# Altium integrated library Linear Technology Power Management Hot Swap Controllers.IntLib: 992 symbols (part 16 of 93)
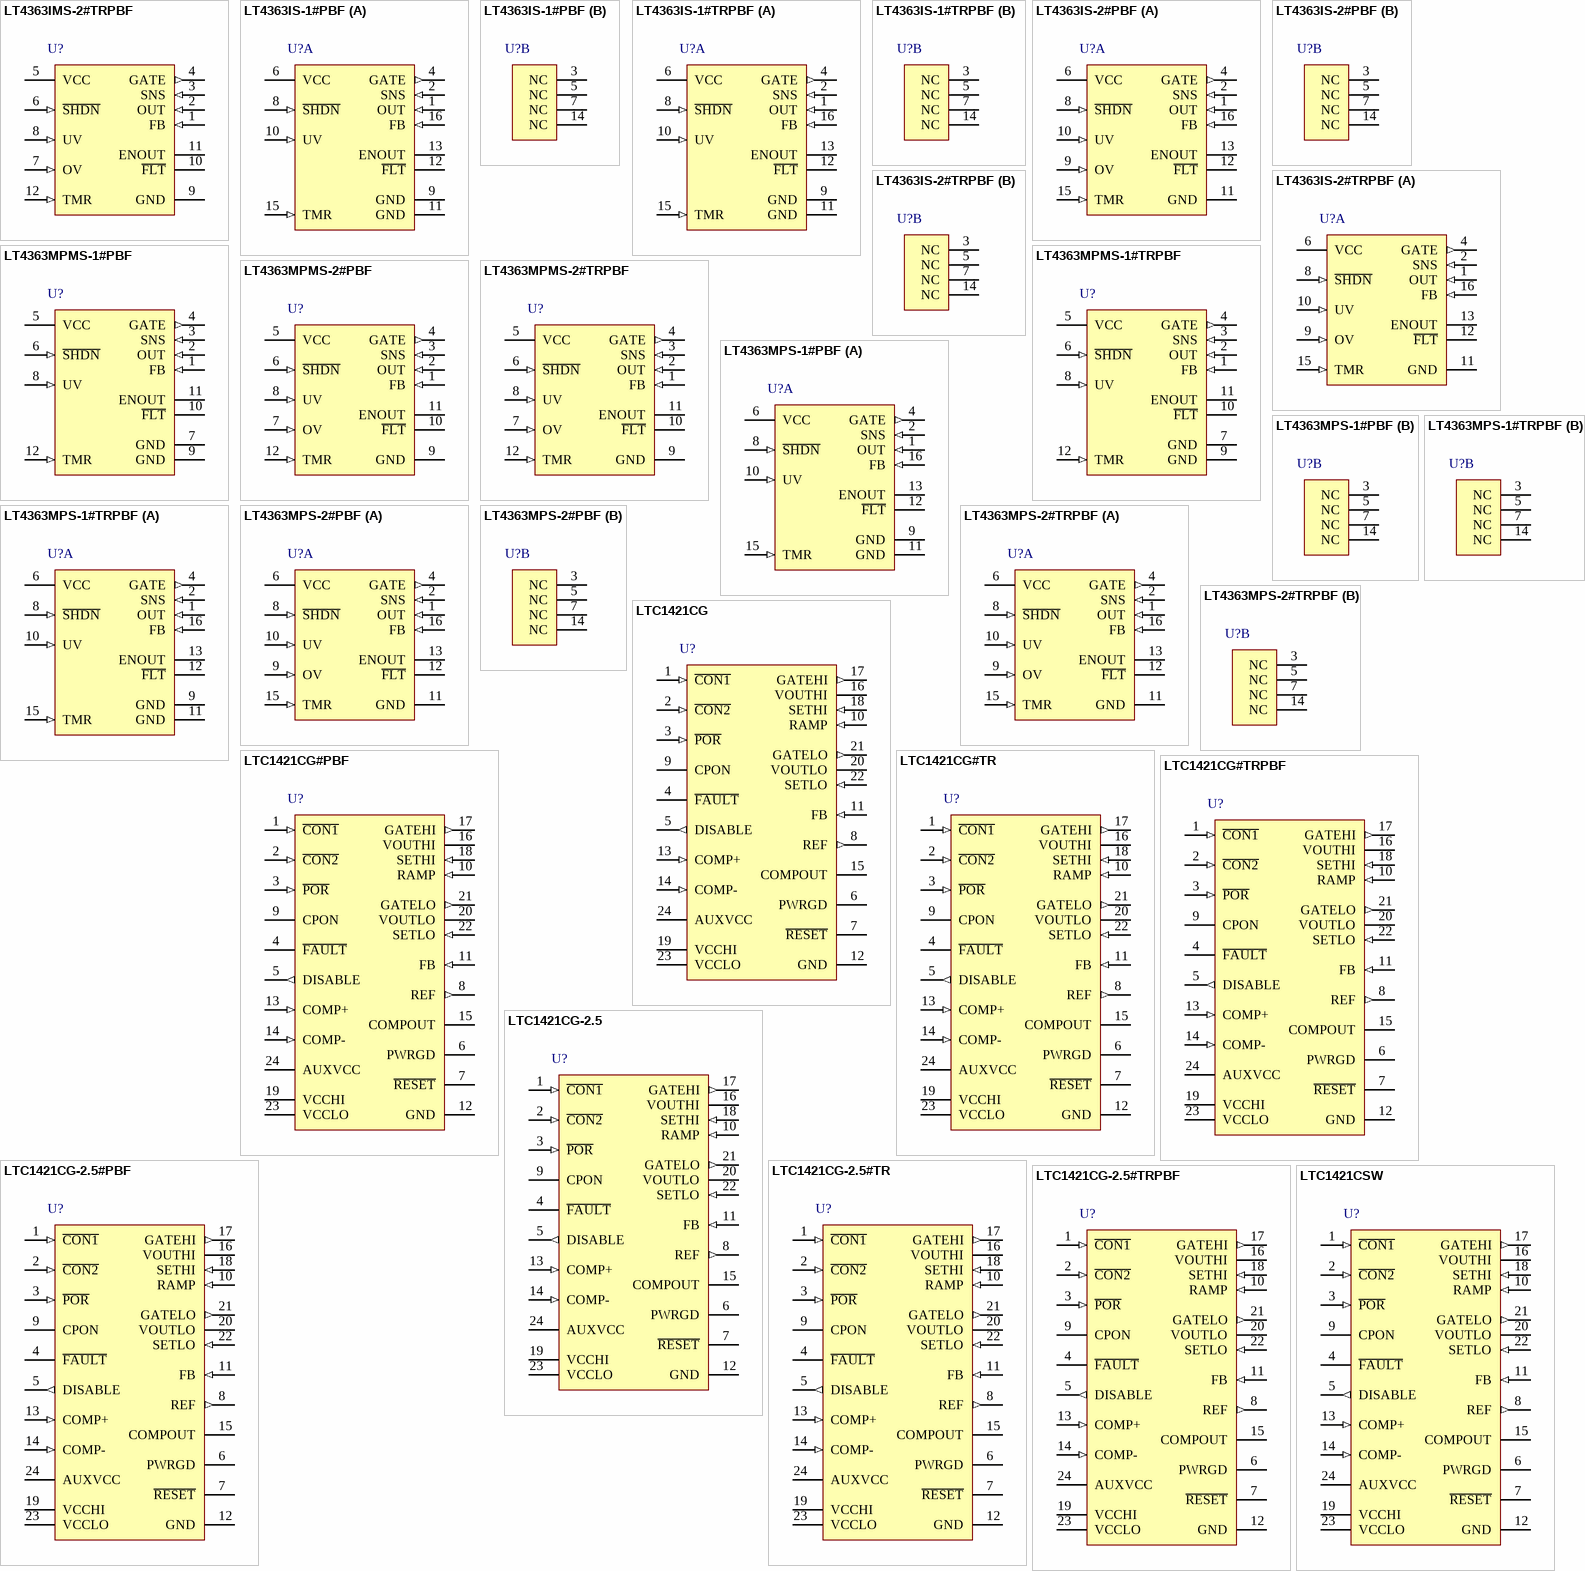
[diagram p52: symbols LT4363IMS-2#TRPBF to LTC1421CSW]

## LT4363MPS-1#TRPBF
designator U?
High Voltage Surge Stopper with Current Limit, 4 to 80 V Vin, 16-pin SOP (S-16), -55 to 125 degC, Pb-Free, Tape and Reel; Manufacturer: Linear Technology; PartNumber: LT4363MPS-1#TRPBF; Active Limiting: yes; Circuit Breaker Accuracy(%): 14; Circuit Breaker Threshold: 50 mV; Extended Temp: C, I, H, MP; Vin Range: 4 to 80 V; DatasheetVersion: Rev. B; PackageVersion: Rev. G, 05/2012; PackageReference: S-16; PackageDescription: 16-Pin Plastic Small Outline, Body 9.9 x 3.9 mm, Pitch 1.27 mm; Supplier 1: Digi-Key; Supplier Part Number 1: LT4363MPS-1#TRPBF-ND; Supplier 2: Newark; Supplier Part Number 2: 94W8483; Fast Comparator: yes; Fault: yes; Foldback: yes; Packing: Tape and Reel; RoHS: TRUE; Mounting Technology: Surface Mount; ComponentLink1Description: Manufacturer URL; ComponentLink1URL: http://www.linear.com/; ComponentLink2Description: Datasheet; ComponentLink2URL: http://cds.linear.com/docs/en/datasheet/4363fb.pdf; ComponentLink3Description: Package Specification; ComponentLink3URL: http://cds.linear.com/docs/en/packaging/S16%2005-08-1610%20Rev%20G.pdf
footprint LT-S-16_N (SOP, 16-Leads, Body 10x4mm, Pitch 1.27mm, IPC Medium Density)
footprint LT-S-16_L (SOP, 16-Leads, Body 10x4mm, Pitch 1.27mm, IPC High Density)
footprint LT-S-16_M (SOP, 16-Leads, Body 10x4mm, Pitch 1.27mm, IPC Low Density)
part A pins: 1 OUT (in) "Output Voltage Sense Input. This pin senses the voltage at the source of the external N-channel MOSFET. The voltage difference between VCC and OUT sets the fault timer current. When this difference drops below 0.5V, the EN (See Datasheet)", 2 SNS (in) "Current Sense Input. Connect this pin to the input of the current sense resistor. The current limit circuit controls the GATE pin to limit the sense voltage between SNS and OUT pins to 50mV. This is reduced to 25mV in a (See Datasheet)", 4 GATE (out) "N-Channel MOSFET Gate Drive Output. The GATE pin is pulled up by an internal charge pump current source to 13V above the OUT pin. A 14V protection clamp limits this voltage during faults. Both voltage and current amplifiers (See Datasheet)", 6 VCC (power) "Positive Supply Voltage Input. The positive supply input ranges from 4V to 80V for normal operation. It can also be pulled below ground by up to 60V during a reverse battery condition, without damaging the part. Shutting (See Datasheet)", 8 ~{SHDN} (in) "Shutdown Control Input. The LT4363 can be shutdown to a low current mode by pulling the S\H\D\N\ pin below the threshold of 0.4V. Pull this pin above 2.1V or disconnect it to allow the internal current source to turn the (See Datasheet)", 9 GND (power) "Device Ground.", 10 UV (in) "Undervoltage Comparator Input. When UV falls below its threshold of 1.275V, the GATE is pulled down with a 1mA current. When UV rises above 1.275V plus the hysteresis, the pull down current disappears and the GATE pin is (See Datasheet)", 11 GND (power) "Device Ground.", 12 ~{FLT} (hiz) "Open Collector Fault Output. This pin pulls low after the voltage at the TMR pin has reached the fault threshold of 1.275V. It indicates the pass transistor is about to turn off because either the supply voltage has stayed (See Datasheet)", 13 ENOUT (hiz) "Open Collector Enable Output. The ENOUT pin goes high impedance when the voltage at the OUT pin is within 0.5V of VCC and 3V above GND, indicating the external MOSFET is fully on. The state of the pin is latched until the (See Datasheet)", 15 TMR (in) "Fault Timer Input. Connect a capacitor between this pin and ground to set the times for early fault warning, fault turn-off, and cool down periods. The current charging up this pin during fault conditions depends on the (See Datasheet)", 16 FB (in) "Voltage Regulator Feedback Input. Connect this pin to the center tap of the resistive divider connected between the OUT pin and ground. During an overvoltage condition, the GATE pin is controlled to maintain a 1.275V (See Datasheet)"
part B pins: 3 NC, 5 NC, 7 NC, 14 NC

## LT4363MPS-2#PBF
designator U?
High Voltage Surge Stopper with Current Limit, 4 to 80 V Vin, 16-pin SOP (S-16), -55 to 125 degC, Pb-Free; Manufacturer: Linear Technology; PartNumber: LT4363MPS-2#PBF; Active Limiting: yes; Circuit Breaker Accuracy(%): 14; Circuit Breaker Threshold: 50 mV; Extended Temp: C, I, H, MP; Vin Range: 4 to 80 V; DatasheetVersion: Rev. B; PackageVersion: Rev. G, 05/2012; PackageReference: S-16; PackageDescription: 16-Pin Plastic Small Outline, Body 9.9 x 3.9 mm, Pitch 1.27 mm; Supplier 1: Digi-Key; Supplier Part Number 1: LT4363MPS-2#PBF-ND; Supplier 2: Newark; Supplier Part Number 2: 94W8484; Fast Comparator: yes; Fault: yes; Foldback: yes; RoHS: TRUE; Mounting Technology: Surface Mount; ComponentLink1Description: Manufacturer URL; ComponentLink1URL: http://www.linear.com/; ComponentLink2Description: Datasheet; ComponentLink2URL: http://cds.linear.com/docs/en/datasheet/4363fb.pdf; ComponentLink3Description: Package Specification; ComponentLink3URL: http://cds.linear.com/docs/en/packaging/S16%2005-08-1610%20Rev%20G.pdf
footprint LT-S-16_N (SOP, 16-Leads, Body 10x4mm, Pitch 1.27mm, IPC Medium Density)
footprint LT-S-16_L (SOP, 16-Leads, Body 10x4mm, Pitch 1.27mm, IPC High Density)
footprint LT-S-16_M (SOP, 16-Leads, Body 10x4mm, Pitch 1.27mm, IPC Low Density)
part A pins: 1 OUT (in) "Output Voltage Sense Input. This pin senses the voltage at the source of the external N-channel MOSFET. The voltage difference between VCC and OUT sets the fault timer current. When this difference drops below 0.5V, the EN (See Datasheet)", 2 SNS (in) "Current Sense Input. Connect this pin to the input of the current sense resistor. The current limit circuit controls the GATE pin to limit the sense voltage between SNS and OUT pins to 50mV. This is reduced to 25mV in a (See Datasheet)", 4 GATE (out) "N-Channel MOSFET Gate Drive Output. The GATE pin is pulled up by an internal charge pump current source to 13V above the OUT pin. A 14V protection clamp limits this voltage during faults. Both voltage and current amplifiers (See Datasheet)", 6 VCC (power) "Positive Supply Voltage Input. The positive supply input ranges from 4V to 80V for normal operation. It can also be pulled below ground by up to 60V during a reverse battery condition, without damaging the part. Shutting (See Datasheet)", 8 ~{SHDN} (in) "Shutdown Control Input. The LT4363 can be shutdown to a low current mode by pulling the S\H\D\N\ pin below the threshold of 0.4V. Pull this pin above 2.1V or disconnect it to allow the internal current source to turn the (See Datasheet)", 9 OV (in) "Overvoltage Comparator Input. When OV is above its threshold of 1.275V, the fault retry function is inhibited even when the TMR pin voltage has reached its retry threshold. As soon as the voltage at OV pin falls below its (See Datasheet)", 10 UV (in) "Undervoltage Comparator Input. When UV falls below its threshold of 1.275V, the GATE is pulled down with a 1mA current. When UV rises above 1.275V plus the hysteresis, the pull down current disappears and the GATE pin is (See Datasheet)", 11 GND (power) "Device Ground.", 12 ~{FLT} (hiz) "Open Collector Fault Output. This pin pulls low after the voltage at the TMR pin has reached the fault threshold of 1.275V. It indicates the pass transistor is about to turn off because either the supply voltage has stayed (See Datasheet)", 13 ENOUT (hiz) "Open Collector Enable Output. The ENOUT pin goes high impedance when the voltage at the OUT pin is within 0.5V of VCC and 3V above GND, indicating the external MOSFET is fully on. The state of the pin is latched until the (See Datasheet)", 15 TMR (in) "Fault Timer Input. Connect a capacitor between this pin and ground to set the times for early fault warning, fault turn-off, and cool down periods. The current charging up this pin during fault conditions depends on the (See Datasheet)", 16 FB (in) "Voltage Regulator Feedback Input. Connect this pin to the center tap of the resistive divider connected between the OUT pin and ground. During an overvoltage condition, the GATE pin is controlled to maintain a 1.275V (See Datasheet)"
part B pins: 3 NC, 5 NC, 7 NC, 14 NC

## LT4363MPS-2#TRPBF
designator U?
High Voltage Surge Stopper with Current Limit, 4 to 80 V Vin, 16-pin SOP (S-16), -55 to 125 degC, Pb-Free, Tape and Reel; Manufacturer: Linear Technology; PartNumber: LT4363MPS-2#TRPBF; Active Limiting: yes; Circuit Breaker Accuracy(%): 14; Circuit Breaker Threshold: 50 mV; Extended Temp: C, I, H, MP; Vin Range: 4 to 80 V; DatasheetVersion: Rev. B; PackageVersion: Rev. G, 05/2012; PackageReference: S-16; PackageDescription: 16-Pin Plastic Small Outline, Body 9.9 x 3.9 mm, Pitch 1.27 mm; Supplier 1: Digi-Key; Supplier Part Number 1: LT4363MPS-2#TRPBF-ND; Supplier 2: Newark; Supplier Part Number 2: 94W8485; Fast Comparator: yes; Fault: yes; Foldback: yes; Packing: Tape and Reel; RoHS: TRUE; Mounting Technology: Surface Mount; ComponentLink1Description: Manufacturer URL; ComponentLink1URL: http://www.linear.com/; ComponentLink2Description: Datasheet; ComponentLink2URL: http://cds.linear.com/docs/en/datasheet/4363fb.pdf; ComponentLink3Description: Package Specification; ComponentLink3URL: http://cds.linear.com/docs/en/packaging/S16%2005-08-1610%20Rev%20G.pdf
footprint LT-S-16_N (SOP, 16-Leads, Body 10x4mm, Pitch 1.27mm, IPC Medium Density)
footprint LT-S-16_L (SOP, 16-Leads, Body 10x4mm, Pitch 1.27mm, IPC High Density)
footprint LT-S-16_M (SOP, 16-Leads, Body 10x4mm, Pitch 1.27mm, IPC Low Density)
part A pins: 1 OUT (in) "Output Voltage Sense Input. This pin senses the voltage at the source of the external N-channel MOSFET. The voltage difference between VCC and OUT sets the fault timer current. When this difference drops below 0.5V, the EN (See Datasheet)", 2 SNS (in) "Current Sense Input. Connect this pin to the input of the current sense resistor. The current limit circuit controls the GATE pin to limit the sense voltage between SNS and OUT pins to 50mV. This is reduced to 25mV in a (See Datasheet)", 4 GATE (out) "N-Channel MOSFET Gate Drive Output. The GATE pin is pulled up by an internal charge pump current source to 13V above the OUT pin. A 14V protection clamp limits this voltage during faults. Both voltage and current amplifiers (See Datasheet)", 6 VCC (power) "Positive Supply Voltage Input. The positive supply input ranges from 4V to 80V for normal operation. It can also be pulled below ground by up to 60V during a reverse battery condition, without damaging the part. Shutting (See Datasheet)", 8 ~{SHDN} (in) "Shutdown Control Input. The LT4363 can be shutdown to a low current mode by pulling the S\H\D\N\ pin below the threshold of 0.4V. Pull this pin above 2.1V or disconnect it to allow the internal current source to turn the (See Datasheet)", 9 OV (in) "Overvoltage Comparator Input. When OV is above its threshold of 1.275V, the fault retry function is inhibited even when the TMR pin voltage has reached its retry threshold. As soon as the voltage at OV pin falls below its (See Datasheet)", 10 UV (in) "Undervoltage Comparator Input. When UV falls below its threshold of 1.275V, the GATE is pulled down with a 1mA current. When UV rises above 1.275V plus the hysteresis, the pull down current disappears and the GATE pin is (See Datasheet)", 11 GND (power) "Device Ground.", 12 ~{FLT} (hiz) "Open Collector Fault Output. This pin pulls low after the voltage at the TMR pin has reached the fault threshold of 1.275V. It indicates the pass transistor is about to turn off because either the supply voltage has stayed (See Datasheet)", 13 ENOUT (hiz) "Open Collector Enable Output. The ENOUT pin goes high impedance when the voltage at the OUT pin is within 0.5V of VCC and 3V above GND, indicating the external MOSFET is fully on. The state of the pin is latched until the (See Datasheet)", 15 TMR (in) "Fault Timer Input. Connect a capacitor between this pin and ground to set the times for early fault warning, fault turn-off, and cool down periods. The current charging up this pin during fault conditions depends on the (See Datasheet)", 16 FB (in) "Voltage Regulator Feedback Input. Connect this pin to the center tap of the resistive divider connected between the OUT pin and ground. During an overvoltage condition, the GATE pin is controlled to maintain a 1.275V (See Datasheet)"
part B pins: 3 NC, 5 NC, 7 NC, 14 NC

## LTC1421CG
designator U?
Hot Swap Controller, 2.6 to 13.2 V, -5 to -12 V Vin, 24-pin SOP (G-24), 0 to 70 degC; Manufacturer: Linear Technology; PartNumber: LTC1421CG; Active Limiting: no; Circuit Breaker Accuracy(%): 20; Circuit Breaker Threshold: 50 mV; Circuit Breakers(#): 2; Extended Temp: C, I; Fault: yes; In-Rush Current: Ramp; DatasheetVersion: Rev. C; PackageVersion: Jun-10; PackageReference: G-24; PackageDescription: 24-Pin Plastic SSOP, Body 8.2 x 5.3 mm, Pitch 0.65 mm; Supplier 1: Digi-Key; Supplier Part Number 1: LTC1421CG-ND; Fast Comparator: no; Foldback: no; Power Good: yes; Reset: yes; RoHS: FALSE; Vin Range: 2.6 to 13.2 V, -5 to -12 V; Mounting Technology: Surface Mount; ComponentLink1Description: Manufacturer URL; ComponentLink1URL: http://www.linear.com/; ComponentLink2Description: Datasheet; ComponentLink2URL: http://cds.linear.com/docs/en/datasheet/1421fc.pdf; ComponentLink3Description: Package Specification; ComponentLink3URL: http://cds.linear.com/docs/en/packaging/SSOP_24_05-08-1640.pdf
footprint LT-G-24_N (SOP, 24-Leads, Body 8.5x5.6mm, Pitch 0.65mm, IPC Medium Density)
footprint LT-G-24_L (SOP, 24-Leads, Body 8.5x5.6mm, Pitch 0.65mm, IPC High Density)
footprint LT-G-24_M (SOP, 24-Leads, Body 8.5x5.6mm, Pitch 0.65mm, IPC Low Density)
pins: 1 ~{CON1} (in) "TTL Level Input with a Pull-Up to VCCLO.Together with C\O\N\2\, it is used to indicate board connection. The pin must be tied to ground on the host side of the connector. When using staggered connector pins, C\O\N\1\ and (See Datasheet)", 2 ~{CON2} (in) "TTL Level Input with a Pull-Up to VCCLO. Together with C\O\N\1\ it is used to indicate board connection.", 3 ~{POR} (in) "TTL Level Input with a Pull-Up to VCCLO. When the pin is pulled low for at least 20ms, a hard reset is generated. Both VOUTLO and VOUTHI will turn off at a controlled rate. A power-up sequence will not start until the P\O\R\ (See Datasheet)", 4 ~{FAULT} (oc) "Open Drain Output to GND with a Weak Pull-Up to VCCLO. The pin is pulled low when an overcurrent fault is detected at VOUTLO or VOUTHI.", 5 DISABLE (out) "CMOS Output. The signal is used to disable the board’s data bus during insertion or removal.", 6 PWRGD (oc) "Open Drain Output to GND with a Weak Pull-Up to VCCLO. The pin is pulled low immediately after VOUTLO falls below its reset threshold voltage. The pin is pulled high immediately after VOUTLO rises above its reset threshold (See Datasheet)", 7 ~{RESET} (oc) "Open Drain Output to GND with a Weak Pull-Up to VCCLO. The pin is pulled low when a reset condition is detected. A reset will be generated when any of the following conditions are met: Either C\O\N\1\ or C\O\N\2\ is high, (See Datasheet)", 8 REF (out) "The Reference Voltage Output. VOUT = 1.232V +/-1%. The reference can source up to 5mA of current. A 1uF bypass capacitor is recommended.", 9 CPON (hiz) "CMOS Output That Can Be Pulled Below Ground. CPON is pulled high when the internal charge pumps for GATELO and GATEHI are turned on. CPON is pulled low when the charge pumps are turned off. The pin can be used to control an (See Datasheet)", 10 RAMP (in) "Analog Power-Up Ramp Control Pin. By connecting an external capacitor between the RAMP and GATEHI, a positive linear voltage ramp on GATEHI and GATELO is generated on power-up with a slope equal to 20uA/CRAMP. A 10k resistor (See Datasheet)", 11 FB (in) "Analog Feedback Input. FB is used to set the reset threshold voltage on VCCLO. For a 5V supply leave FB floating. For a 3.3V supply, short FB to VCCLO.", 12 GND (power) "Ground", 13 COMP+ (in) "Noninverting Comparator Input.", 14 COMP- (in) "Inverting Comparator Input.", 15 COMPOUT (oc) "Open Drain Comparator Output.", 16 VOUTHI (power) "High Supply Voltage Output. This must be the higher of the two supply voltage outputs.", 17 GATEHI (out) "The High Side Gate Drive for the High Supply N-Channel. An internal charge pump guarantees at least 6V of gate drive. The slope of the voltage rise at GATEHI is set by the external capacitor connected between GATEHI and RAMP.(See Datasheet)", 18 SETHI (in) "The Circuit Breaker Set Pin for the High Supply. With a sense resistor placed in the supply path between VCCHI and SETHI, the circuit breaker will trip when the voltage across the resistor exceeds 50mV for more than 20us. To (See Datasheet)", 19 VCCHI (power) "The Positive Supply Input. This must be the higher of the two input supply voltages. An undervoltage lockout circuit disables the chip until the voltage at VCCHI is greater than 2.45V.", 20 VOUTLO (power) "Low Supply Voltage Output. This must be the lower of the two supply voltage outputs.", 21 GATELO (out) "The High Side Gate Drive for the Low Supply N-Channel Pass Transistor. An internal charge pump guarantees at least 10V of gate drive. The slope of the voltage rise at GATELO is set by the external capacitor connected between (See Datasheet)", 22 SETLO (in) "The Circuit Breaker Set Pin for the Low Supply. With a sense resistor placed in the supply path between VCCLO and SETLO, the circuit breaker will trip when the voltage across the resistor exceeds 50mV for more than 20us. To (See Datasheet)", 23 VCCLO (power) "The Positive Supply Input. VCCLO must be equal to or lower voltage than VCCHI. An undervoltage lockout circuit disables the chip until the voltage at VCCLO is greater than 2.45V.", 24 AUXVCC (power) "The supply input for the GATELO and GATEHI discharge circuitry. Connect a 1uF capacitor to ground. AUXVCC is powered from VCCLO via an internal Schottky diode and series resistor."

## LTC1421CG#PBF
designator U?
Hot Swap Controller, 2.6 to 13.2 V, -5 to -12 V Vin, 24-pin SOP (G-24), 0 to 70 degC, Pb-Free; Manufacturer: Linear Technology; PartNumber: LTC1421CG#PBF; Active Limiting: no; Circuit Breaker Accuracy(%): 20; Circuit Breaker Threshold: 50 mV; Circuit Breakers(#): 2; Extended Temp: C, I; Fault: yes; In-Rush Current: Ramp; DatasheetVersion: Rev. C; PackageVersion: Jun-10; PackageReference: G-24; PackageDescription: 24-Pin Plastic SSOP, Body 8.2 x 5.3 mm, Pitch 0.65 mm; Supplier 1: Digi-Key; Supplier Part Number 1: LTC1421CG#PBF-ND; Fast Comparator: no; Foldback: no; Power Good: yes; Reset: yes; RoHS: TRUE; Vin Range: 2.6 to 13.2 V, -5 to -12 V; Mounting Technology: Surface Mount; ComponentLink1Description: Manufacturer URL; ComponentLink1URL: http://www.linear.com/; ComponentLink2Description: Datasheet; ComponentLink2URL: http://cds.linear.com/docs/en/datasheet/1421fc.pdf; ComponentLink3Description: Package Specification; ComponentLink3URL: http://cds.linear.com/docs/en/packaging/SSOP_24_05-08-1640.pdf
footprint LT-G-24_N (SOP, 24-Leads, Body 8.5x5.6mm, Pitch 0.65mm, IPC Medium Density)
footprint LT-G-24_L (SOP, 24-Leads, Body 8.5x5.6mm, Pitch 0.65mm, IPC High Density)
footprint LT-G-24_M (SOP, 24-Leads, Body 8.5x5.6mm, Pitch 0.65mm, IPC Low Density)
pins: 1 ~{CON1} (in) "TTL Level Input with a Pull-Up to VCCLO.Together with C\O\N\2\, it is used to indicate board connection. The pin must be tied to ground on the host side of the connector. When using staggered connector pins, C\O\N\1\ and (See Datasheet)", 2 ~{CON2} (in) "TTL Level Input with a Pull-Up to VCCLO. Together with C\O\N\1\ it is used to indicate board connection.", 3 ~{POR} (in) "TTL Level Input with a Pull-Up to VCCLO. When the pin is pulled low for at least 20ms, a hard reset is generated. Both VOUTLO and VOUTHI will turn off at a controlled rate. A power-up sequence will not start until the P\O\R\ (See Datasheet)", 4 ~{FAULT} (oc) "Open Drain Output to GND with a Weak Pull-Up to VCCLO. The pin is pulled low when an overcurrent fault is detected at VOUTLO or VOUTHI.", 5 DISABLE (out) "CMOS Output. The signal is used to disable the board’s data bus during insertion or removal.", 6 PWRGD (oc) "Open Drain Output to GND with a Weak Pull-Up to VCCLO. The pin is pulled low immediately after VOUTLO falls below its reset threshold voltage. The pin is pulled high immediately after VOUTLO rises above its reset threshold (See Datasheet)", 7 ~{RESET} (oc) "Open Drain Output to GND with a Weak Pull-Up to VCCLO. The pin is pulled low when a reset condition is detected. A reset will be generated when any of the following conditions are met: Either C\O\N\1\ or C\O\N\2\ is high, (See Datasheet)", 8 REF (out) "The Reference Voltage Output. VOUT = 1.232V +/-1%. The reference can source up to 5mA of current. A 1uF bypass capacitor is recommended.", 9 CPON (hiz) "CMOS Output That Can Be Pulled Below Ground. CPON is pulled high when the internal charge pumps for GATELO and GATEHI are turned on. CPON is pulled low when the charge pumps are turned off. The pin can be used to control an (See Datasheet)", 10 RAMP (in) "Analog Power-Up Ramp Control Pin. By connecting an external capacitor between the RAMP and GATEHI, a positive linear voltage ramp on GATEHI and GATELO is generated on power-up with a slope equal to 20uA/CRAMP. A 10k resistor (See Datasheet)", 11 FB (in) "Analog Feedback Input. FB is used to set the reset threshold voltage on VCCLO. For a 5V supply leave FB floating. For a 3.3V supply, short FB to VCCLO.", 12 GND (power) "Ground", 13 COMP+ (in) "Noninverting Comparator Input.", 14 COMP- (in) "Inverting Comparator Input.", 15 COMPOUT (oc) "Open Drain Comparator Output.", 16 VOUTHI (power) "High Supply Voltage Output. This must be the higher of the two supply voltage outputs.", 17 GATEHI (out) "The High Side Gate Drive for the High Supply N-Channel. An internal charge pump guarantees at least 6V of gate drive. The slope of the voltage rise at GATEHI is set by the external capacitor connected between GATEHI and RAMP.(See Datasheet)", 18 SETHI (in) "The Circuit Breaker Set Pin for the High Supply. With a sense resistor placed in the supply path between VCCHI and SETHI, the circuit breaker will trip when the voltage across the resistor exceeds 50mV for more than 20us. To (See Datasheet)", 19 VCCHI (power) "The Positive Supply Input. This must be the higher of the two input supply voltages. An undervoltage lockout circuit disables the chip until the voltage at VCCHI is greater than 2.45V.", 20 VOUTLO (power) "Low Supply Voltage Output. This must be the lower of the two supply voltage outputs.", 21 GATELO (out) "The High Side Gate Drive for the Low Supply N-Channel Pass Transistor. An internal charge pump guarantees at least 10V of gate drive. The slope of the voltage rise at GATELO is set by the external capacitor connected between (See Datasheet)", 22 SETLO (in) "The Circuit Breaker Set Pin for the Low Supply. With a sense resistor placed in the supply path between VCCLO and SETLO, the circuit breaker will trip when the voltage across the resistor exceeds 50mV for more than 20us. To (See Datasheet)", 23 VCCLO (power) "The Positive Supply Input. VCCLO must be equal to or lower voltage than VCCHI. An undervoltage lockout circuit disables the chip until the voltage at VCCLO is greater than 2.45V.", 24 AUXVCC (power) "The supply input for the GATELO and GATEHI discharge circuitry. Connect a 1uF capacitor to ground. AUXVCC is powered from VCCLO via an internal Schottky diode and series resistor."

## LTC1421CG#TR
designator U?
Hot Swap Controller, 2.6 to 13.2 V, -5 to -12 V Vin, 24-pin SOP (G-24), 0 to 70 degC, Tape and Reel; Manufacturer: Linear Technology; PartNumber: LTC1421CG#TR; Active Limiting: no; Circuit Breaker Accuracy(%): 20; Circuit Breaker Threshold: 50 mV; Circuit Breakers(#): 2; Extended Temp: C, I; Fault: yes; In-Rush Current: Ramp; DatasheetVersion: Rev. C; PackageVersion: Jun-10; PackageReference: G-24; PackageDescription: 24-Pin Plastic SSOP, Body 8.2 x 5.3 mm, Pitch 0.65 mm; Supplier 1: Digi-Key; Supplier Part Number 1: LTC1421CG#TR-ND; Fast Comparator: no; Foldback: no; Packing: Tape and Reel; Power Good: yes; Reset: yes; RoHS: FALSE; Vin Range: 2.6 to 13.2 V, -5 to -12 V; Mounting Technology: Surface Mount; ComponentLink1Description: Manufacturer URL; ComponentLink1URL: http://www.linear.com/; ComponentLink2Description: Datasheet; ComponentLink2URL: http://cds.linear.com/docs/en/datasheet/1421fc.pdf; ComponentLink3Description: Package Specification; ComponentLink3URL: http://cds.linear.com/docs/en/packaging/SSOP_24_05-08-1640.pdf
footprint LT-G-24_N (SOP, 24-Leads, Body 8.5x5.6mm, Pitch 0.65mm, IPC Medium Density)
footprint LT-G-24_L (SOP, 24-Leads, Body 8.5x5.6mm, Pitch 0.65mm, IPC High Density)
footprint LT-G-24_M (SOP, 24-Leads, Body 8.5x5.6mm, Pitch 0.65mm, IPC Low Density)
pins: 1 ~{CON1} (in) "TTL Level Input with a Pull-Up to VCCLO.Together with C\O\N\2\, it is used to indicate board connection. The pin must be tied to ground on the host side of the connector. When using staggered connector pins, C\O\N\1\ and (See Datasheet)", 2 ~{CON2} (in) "TTL Level Input with a Pull-Up to VCCLO. Together with C\O\N\1\ it is used to indicate board connection.", 3 ~{POR} (in) "TTL Level Input with a Pull-Up to VCCLO. When the pin is pulled low for at least 20ms, a hard reset is generated. Both VOUTLO and VOUTHI will turn off at a controlled rate. A power-up sequence will not start until the P\O\R\ (See Datasheet)", 4 ~{FAULT} (oc) "Open Drain Output to GND with a Weak Pull-Up to VCCLO. The pin is pulled low when an overcurrent fault is detected at VOUTLO or VOUTHI.", 5 DISABLE (out) "CMOS Output. The signal is used to disable the board’s data bus during insertion or removal.", 6 PWRGD (oc) "Open Drain Output to GND with a Weak Pull-Up to VCCLO. The pin is pulled low immediately after VOUTLO falls below its reset threshold voltage. The pin is pulled high immediately after VOUTLO rises above its reset threshold (See Datasheet)", 7 ~{RESET} (oc) "Open Drain Output to GND with a Weak Pull-Up to VCCLO. The pin is pulled low when a reset condition is detected. A reset will be generated when any of the following conditions are met: Either C\O\N\1\ or C\O\N\2\ is high, (See Datasheet)", 8 REF (out) "The Reference Voltage Output. VOUT = 1.232V +/-1%. The reference can source up to 5mA of current. A 1uF bypass capacitor is recommended.", 9 CPON (hiz) "CMOS Output That Can Be Pulled Below Ground. CPON is pulled high when the internal charge pumps for GATELO and GATEHI are turned on. CPON is pulled low when the charge pumps are turned off. The pin can be used to control an (See Datasheet)", 10 RAMP (in) "Analog Power-Up Ramp Control Pin. By connecting an external capacitor between the RAMP and GATEHI, a positive linear voltage ramp on GATEHI and GATELO is generated on power-up with a slope equal to 20uA/CRAMP. A 10k resistor (See Datasheet)", 11 FB (in) "Analog Feedback Input. FB is used to set the reset threshold voltage on VCCLO. For a 5V supply leave FB floating. For a 3.3V supply, short FB to VCCLO.", 12 GND (power) "Ground", 13 COMP+ (in) "Noninverting Comparator Input.", 14 COMP- (in) "Inverting Comparator Input.", 15 COMPOUT (oc) "Open Drain Comparator Output.", 16 VOUTHI (power) "High Supply Voltage Output. This must be the higher of the two supply voltage outputs.", 17 GATEHI (out) "The High Side Gate Drive for the High Supply N-Channel. An internal charge pump guarantees at least 6V of gate drive. The slope of the voltage rise at GATEHI is set by the external capacitor connected between GATEHI and RAMP.(See Datasheet)", 18 SETHI (in) "The Circuit Breaker Set Pin for the High Supply. With a sense resistor placed in the supply path between VCCHI and SETHI, the circuit breaker will trip when the voltage across the resistor exceeds 50mV for more than 20us. To (See Datasheet)", 19 VCCHI (power) "The Positive Supply Input. This must be the higher of the two input supply voltages. An undervoltage lockout circuit disables the chip until the voltage at VCCHI is greater than 2.45V.", 20 VOUTLO (power) "Low Supply Voltage Output. This must be the lower of the two supply voltage outputs.", 21 GATELO (out) "The High Side Gate Drive for the Low Supply N-Channel Pass Transistor. An internal charge pump guarantees at least 10V of gate drive. The slope of the voltage rise at GATELO is set by the external capacitor connected between (See Datasheet)", 22 SETLO (in) "The Circuit Breaker Set Pin for the Low Supply. With a sense resistor placed in the supply path between VCCLO and SETLO, the circuit breaker will trip when the voltage across the resistor exceeds 50mV for more than 20us. To (See Datasheet)", 23 VCCLO (power) "The Positive Supply Input. VCCLO must be equal to or lower voltage than VCCHI. An undervoltage lockout circuit disables the chip until the voltage at VCCLO is greater than 2.45V.", 24 AUXVCC (power) "The supply input for the GATELO and GATEHI discharge circuitry. Connect a 1uF capacitor to ground. AUXVCC is powered from VCCLO via an internal Schottky diode and series resistor."

## LTC1421CG#TRPBF
designator U?
Hot Swap Controller, 2.6 to 13.2 V, -5 to -12 V Vin, 24-pin SOP (G-24), 0 to 70 degC, Pb-Free, Tape and Reel; Manufacturer: Linear Technology; PartNumber: LTC1421CG#TRPBF; Active Limiting: no; Circuit Breaker Accuracy(%): 20; Circuit Breaker Threshold: 50 mV; Circuit Breakers(#): 2; Extended Temp: C, I; Fault: yes; In-Rush Current: Ramp; DatasheetVersion: Rev. C; PackageVersion: Jun-10; PackageReference: G-24; PackageDescription: 24-Pin Plastic SSOP, Body 8.2 x 5.3 mm, Pitch 0.65 mm; Supplier 1: Digi-Key; Supplier Part Number 1: LTC1421CG#TRPBF-ND; Fast Comparator: no; Foldback: no; Packing: Tape and Reel; Power Good: yes; Reset: yes; RoHS: TRUE; Vin Range: 2.6 to 13.2 V, -5 to -12 V; Mounting Technology: Surface Mount; ComponentLink1Description: Manufacturer URL; ComponentLink1URL: http://www.linear.com/; ComponentLink2Description: Datasheet; ComponentLink2URL: http://cds.linear.com/docs/en/datasheet/1421fc.pdf; ComponentLink3Description: Package Specification; ComponentLink3URL: http://cds.linear.com/docs/en/packaging/SSOP_24_05-08-1640.pdf
footprint LT-G-24_N (SOP, 24-Leads, Body 8.5x5.6mm, Pitch 0.65mm, IPC Medium Density)
footprint LT-G-24_L (SOP, 24-Leads, Body 8.5x5.6mm, Pitch 0.65mm, IPC High Density)
footprint LT-G-24_M (SOP, 24-Leads, Body 8.5x5.6mm, Pitch 0.65mm, IPC Low Density)
pins: 1 ~{CON1} (in) "TTL Level Input with a Pull-Up to VCCLO.Together with C\O\N\2\, it is used to indicate board connection. The pin must be tied to ground on the host side of the connector. When using staggered connector pins, C\O\N\1\ and (See Datasheet)", 2 ~{CON2} (in) "TTL Level Input with a Pull-Up to VCCLO. Together with C\O\N\1\ it is used to indicate board connection.", 3 ~{POR} (in) "TTL Level Input with a Pull-Up to VCCLO. When the pin is pulled low for at least 20ms, a hard reset is generated. Both VOUTLO and VOUTHI will turn off at a controlled rate. A power-up sequence will not start until the P\O\R\ (See Datasheet)", 4 ~{FAULT} (oc) "Open Drain Output to GND with a Weak Pull-Up to VCCLO. The pin is pulled low when an overcurrent fault is detected at VOUTLO or VOUTHI.", 5 DISABLE (out) "CMOS Output. The signal is used to disable the board’s data bus during insertion or removal.", 6 PWRGD (oc) "Open Drain Output to GND with a Weak Pull-Up to VCCLO. The pin is pulled low immediately after VOUTLO falls below its reset threshold voltage. The pin is pulled high immediately after VOUTLO rises above its reset threshold (See Datasheet)", 7 ~{RESET} (oc) "Open Drain Output to GND with a Weak Pull-Up to VCCLO. The pin is pulled low when a reset condition is detected. A reset will be generated when any of the following conditions are met: Either C\O\N\1\ or C\O\N\2\ is high, (See Datasheet)", 8 REF (out) "The Reference Voltage Output. VOUT = 1.232V +/-1%. The reference can source up to 5mA of current. A 1uF bypass capacitor is recommended.", 9 CPON (hiz) "CMOS Output That Can Be Pulled Below Ground. CPON is pulled high when the internal charge pumps for GATELO and GATEHI are turned on. CPON is pulled low when the charge pumps are turned off. The pin can be used to control an (See Datasheet)", 10 RAMP (in) "Analog Power-Up Ramp Control Pin. By connecting an external capacitor between the RAMP and GATEHI, a positive linear voltage ramp on GATEHI and GATELO is generated on power-up with a slope equal to 20uA/CRAMP. A 10k resistor (See Datasheet)", 11 FB (in) "Analog Feedback Input. FB is used to set the reset threshold voltage on VCCLO. For a 5V supply leave FB floating. For a 3.3V supply, short FB to VCCLO.", 12 GND (power) "Ground", 13 COMP+ (in) "Noninverting Comparator Input.", 14 COMP- (in) "Inverting Comparator Input.", 15 COMPOUT (oc) "Open Drain Comparator Output.", 16 VOUTHI (power) "High Supply Voltage Output. This must be the higher of the two supply voltage outputs.", 17 GATEHI (out) "The High Side Gate Drive for the High Supply N-Channel. An internal charge pump guarantees at least 6V of gate drive. The slope of the voltage rise at GATEHI is set by the external capacitor connected between GATEHI and RAMP.(See Datasheet)", 18 SETHI (in) "The Circuit Breaker Set Pin for the High Supply. With a sense resistor placed in the supply path between VCCHI and SETHI, the circuit breaker will trip when the voltage across the resistor exceeds 50mV for more than 20us. To (See Datasheet)", 19 VCCHI (power) "The Positive Supply Input. This must be the higher of the two input supply voltages. An undervoltage lockout circuit disables the chip until the voltage at VCCHI is greater than 2.45V.", 20 VOUTLO (power) "Low Supply Voltage Output. This must be the lower of the two supply voltage outputs.", 21 GATELO (out) "The High Side Gate Drive for the Low Supply N-Channel Pass Transistor. An internal charge pump guarantees at least 10V of gate drive. The slope of the voltage rise at GATELO is set by the external capacitor connected between (See Datasheet)", 22 SETLO (in) "The Circuit Breaker Set Pin for the Low Supply. With a sense resistor placed in the supply path between VCCLO and SETLO, the circuit breaker will trip when the voltage across the resistor exceeds 50mV for more than 20us. To (See Datasheet)", 23 VCCLO (power) "The Positive Supply Input. VCCLO must be equal to or lower voltage than VCCHI. An undervoltage lockout circuit disables the chip until the voltage at VCCLO is greater than 2.45V.", 24 AUXVCC (power) "The supply input for the GATELO and GATEHI discharge circuitry. Connect a 1uF capacitor to ground. AUXVCC is powered from VCCLO via an internal Schottky diode and series resistor."

## LTC1421CG-2.5
designator U?
Hot Swap Controller, 2.6 to 13.2 V, -5 to -12 V Vin, 24-pin SOP (G-24), 0 to 70 degC; Manufacturer: Linear Technology; PartNumber: LTC1421CG-2.5; Active Limiting: no; Circuit Breaker Accuracy(%): 20; Circuit Breaker Threshold: 50 mV; Circuit Breakers(#): 2; Extended Temp: C, I; Fault: yes; In-Rush Current: Ramp; DatasheetVersion: Rev. C; PackageVersion: Jun-10; PackageReference: G-24; PackageDescription: 24-Pin Plastic SSOP, Body 8.2 x 5.3 mm, Pitch 0.65 mm; Supplier 1: Digi-Key; Supplier Part Number 1: LTC1421CG-2.5-ND; Fast Comparator: no; Foldback: no; Power Good: yes; Reset: yes; RoHS: FALSE; Vin Range: 2.6 to 13.2 V, -5 to -12 V; Mounting Technology: Surface Mount; ComponentLink1Description: Manufacturer URL; ComponentLink1URL: http://www.linear.com/; ComponentLink2Description: Datasheet; ComponentLink2URL: http://cds.linear.com/docs/en/datasheet/1421fc.pdf; ComponentLink3Description: Package Specification; ComponentLink3URL: http://cds.linear.com/docs/en/packaging/SSOP_24_05-08-1640.pdf
footprint LT-G-24_N (SOP, 24-Leads, Body 8.5x5.6mm, Pitch 0.65mm, IPC Medium Density)
footprint LT-G-24_L (SOP, 24-Leads, Body 8.5x5.6mm, Pitch 0.65mm, IPC High Density)
footprint LT-G-24_M (SOP, 24-Leads, Body 8.5x5.6mm, Pitch 0.65mm, IPC Low Density)
pins: 1 ~{CON1} (in) "TTL Level Input with a Pull-Up to VCCLO.Together with C\O\N\2\, it is used to indicate board connection. The pin must be tied to ground on the host side of the connector. When using staggered connector pins, C\O\N\1\ and (See Datasheet)", 2 ~{CON2} (in) "TTL Level Input with a Pull-Up to VCCLO. Together with C\O\N\1\ it is used to indicate board connection.", 3 ~{POR} (in) "TTL Level Input with a Pull-Up to VCCLO. When the pin is pulled low for at least 20ms, a hard reset is generated. Both VOUTLO and VOUTHI will turn off at a controlled rate. A power-up sequence will not start until the P\O\R\ (See Datasheet)", 4 ~{FAULT} (oc) "Open Drain Output to GND with a Weak Pull-Up to VCCLO. The pin is pulled low when an overcurrent fault is detected at VOUTLO or VOUTHI.", 5 DISABLE (out) "CMOS Output. The signal is used to disable the board’s data bus during insertion or removal.", 6 PWRGD (oc) "Open Drain Output to GND with a Weak Pull-Up to VCCLO. The pin is pulled low immediately after VOUTLO falls below its reset threshold voltage. The pin is pulled high immediately after VOUTLO rises above its reset threshold (See Datasheet)", 7 ~{RESET} (oc) "Open Drain Output to GND with a Weak Pull-Up to VCCLO. The pin is pulled low when a reset condition is detected. A reset will be generated when any of the following conditions are met: Either C\O\N\1\ or C\O\N\2\ is high, (See Datasheet)", 8 REF (out) "The Reference Voltage Output. VOUT = 1.232V +/-1%. The reference can source up to 5mA of current. A 1uF bypass capacitor is recommended.", 9 CPON (hiz) "CMOS Output That Can Be Pulled Below Ground. CPON is pulled high when the internal charge pumps for GATELO and GATEHI are turned on. CPON is pulled low when the charge pumps are turned off. The pin can be used to control an (See Datasheet)", 10 RAMP (in) "Analog Power-Up Ramp Control Pin. By connecting an external capacitor between the RAMP and GATEHI, a positive linear voltage ramp on GATEHI and GATELO is generated on power-up with a slope equal to 20uA/CRAMP. A 10k resistor (See Datasheet)", 11 FB (in) "Analog Feedback Input. FB is used to set the reset threshold voltage on VCCLO. For a 5V supply leave FB floating. For a 3.3V supply, short FB to VCCLO.", 12 GND (power) "Ground", 13 COMP+ (in) "Noninverting Comparator Input.", 14 COMP- (in) "Inverting Comparator Input.", 15 COMPOUT (oc) "Open Drain Comparator Output.", 16 VOUTHI (power) "High Supply Voltage Output. This must be the higher of the two supply voltage outputs.", 17 GATEHI (out) "The High Side Gate Drive for the High Supply N-Channel. An internal charge pump guarantees at least 6V of gate drive. The slope of the voltage rise at GATEHI is set by the external capacitor connected between GATEHI and RAMP.(See Datasheet)", 18 SETHI (in) "The Circuit Breaker Set Pin for the High Supply. With a sense resistor placed in the supply path between VCCHI and SETHI, the circuit breaker will trip when the voltage across the resistor exceeds 50mV for more than 20us. To (See Datasheet)", 19 VCCHI (power) "The Positive Supply Input. This must be the higher of the two input supply voltages. An undervoltage lockout circuit disables the chip until the voltage at VCCHI is greater than 2.45V.", 20 VOUTLO (power) "Low Supply Voltage Output. This must be the lower of the two supply voltage outputs.", 21 GATELO (out) "The High Side Gate Drive for the Low Supply N-Channel Pass Transistor. An internal charge pump guarantees at least 10V of gate drive. The slope of the voltage rise at GATELO is set by the external capacitor connected between (See Datasheet)", 22 SETLO (in) "The Circuit Breaker Set Pin for the Low Supply. With a sense resistor placed in the supply path between VCCLO and SETLO, the circuit breaker will trip when the voltage across the resistor exceeds 50mV for more than 20us. To (See Datasheet)", 23 VCCLO (power) "The Positive Supply Input. VCCLO must be equal to or lower voltage than VCCHI. An undervoltage lockout circuit disables the chip until the voltage at VCCLO is greater than 2.45V.", 24 AUXVCC (power) "The supply input for the GATELO and GATEHI discharge circuitry. Connect a 1uF capacitor to ground. AUXVCC is powered from VCCLO via an internal Schottky diode and series resistor."

## LTC1421CG-2.5#PBF
designator U?
Hot Swap Controller, 2.6 to 13.2 V, -5 to -12 V Vin, 24-pin SOP (G-24), 0 to 70 degC, Pb-Free; Manufacturer: Linear Technology; PartNumber: LTC1421CG-2.5#PBF; Active Limiting: no; Circuit Breaker Accuracy(%): 20; Circuit Breaker Threshold: 50 mV; Circuit Breakers(#): 2; Extended Temp: C, I; Fault: yes; In-Rush Current: Ramp; DatasheetVersion: Rev. C; PackageVersion: Jun-10; PackageReference: G-24; PackageDescription: 24-Pin Plastic SSOP, Body 8.2 x 5.3 mm, Pitch 0.65 mm; Supplier 1: Digi-Key; Supplier Part Number 1: LTC1421CG-2.5#PBF-ND; Fast Comparator: no; Foldback: no; Power Good: yes; Reset: yes; RoHS: TRUE; Vin Range: 2.6 to 13.2 V, -5 to -12 V; Mounting Technology: Surface Mount; ComponentLink1Description: Manufacturer URL; ComponentLink1URL: http://www.linear.com/; ComponentLink2Description: Datasheet; ComponentLink2URL: http://cds.linear.com/docs/en/datasheet/1421fc.pdf; ComponentLink3Description: Package Specification; ComponentLink3URL: http://cds.linear.com/docs/en/packaging/SSOP_24_05-08-1640.pdf
footprint LT-G-24_N (SOP, 24-Leads, Body 8.5x5.6mm, Pitch 0.65mm, IPC Medium Density)
footprint LT-G-24_L (SOP, 24-Leads, Body 8.5x5.6mm, Pitch 0.65mm, IPC High Density)
footprint LT-G-24_M (SOP, 24-Leads, Body 8.5x5.6mm, Pitch 0.65mm, IPC Low Density)
pins: 1 ~{CON1} (in) "TTL Level Input with a Pull-Up to VCCLO.Together with C\O\N\2\, it is used to indicate board connection. The pin must be tied to ground on the host side of the connector. When using staggered connector pins, C\O\N\1\ and (See Datasheet)", 2 ~{CON2} (in) "TTL Level Input with a Pull-Up to VCCLO. Together with C\O\N\1\ it is used to indicate board connection.", 3 ~{POR} (in) "TTL Level Input with a Pull-Up to VCCLO. When the pin is pulled low for at least 20ms, a hard reset is generated. Both VOUTLO and VOUTHI will turn off at a controlled rate. A power-up sequence will not start until the P\O\R\ (See Datasheet)", 4 ~{FAULT} (oc) "Open Drain Output to GND with a Weak Pull-Up to VCCLO. The pin is pulled low when an overcurrent fault is detected at VOUTLO or VOUTHI.", 5 DISABLE (out) "CMOS Output. The signal is used to disable the board’s data bus during insertion or removal.", 6 PWRGD (oc) "Open Drain Output to GND with a Weak Pull-Up to VCCLO. The pin is pulled low immediately after VOUTLO falls below its reset threshold voltage. The pin is pulled high immediately after VOUTLO rises above its reset threshold (See Datasheet)", 7 ~{RESET} (oc) "Open Drain Output to GND with a Weak Pull-Up to VCCLO. The pin is pulled low when a reset condition is detected. A reset will be generated when any of the following conditions are met: Either C\O\N\1\ or C\O\N\2\ is high, (See Datasheet)", 8 REF (out) "The Reference Voltage Output. VOUT = 1.232V +/-1%. The reference can source up to 5mA of current. A 1uF bypass capacitor is recommended.", 9 CPON (hiz) "CMOS Output That Can Be Pulled Below Ground. CPON is pulled high when the internal charge pumps for GATELO and GATEHI are turned on. CPON is pulled low when the charge pumps are turned off. The pin can be used to control an (See Datasheet)", 10 RAMP (in) "Analog Power-Up Ramp Control Pin. By connecting an external capacitor between the RAMP and GATEHI, a positive linear voltage ramp on GATEHI and GATELO is generated on power-up with a slope equal to 20uA/CRAMP. A 10k resistor (See Datasheet)", 11 FB (in) "Analog Feedback Input. FB is used to set the reset threshold voltage on VCCLO. For a 5V supply leave FB floating. For a 3.3V supply, short FB to VCCLO.", 12 GND (power) "Ground", 13 COMP+ (in) "Noninverting Comparator Input.", 14 COMP- (in) "Inverting Comparator Input.", 15 COMPOUT (oc) "Open Drain Comparator Output.", 16 VOUTHI (power) "High Supply Voltage Output. This must be the higher of the two supply voltage outputs.", 17 GATEHI (out) "The High Side Gate Drive for the High Supply N-Channel. An internal charge pump guarantees at least 6V of gate drive. The slope of the voltage rise at GATEHI is set by the external capacitor connected between GATEHI and RAMP.(See Datasheet)", 18 SETHI (in) "The Circuit Breaker Set Pin for the High Supply. With a sense resistor placed in the supply path between VCCHI and SETHI, the circuit breaker will trip when the voltage across the resistor exceeds 50mV for more than 20us. To (See Datasheet)", 19 VCCHI (power) "The Positive Supply Input. This must be the higher of the two input supply voltages. An undervoltage lockout circuit disables the chip until the voltage at VCCHI is greater than 2.45V.", 20 VOUTLO (power) "Low Supply Voltage Output. This must be the lower of the two supply voltage outputs.", 21 GATELO (out) "The High Side Gate Drive for the Low Supply N-Channel Pass Transistor. An internal charge pump guarantees at least 10V of gate drive. The slope of the voltage rise at GATELO is set by the external capacitor connected between (See Datasheet)", 22 SETLO (in) "The Circuit Breaker Set Pin for the Low Supply. With a sense resistor placed in the supply path between VCCLO and SETLO, the circuit breaker will trip when the voltage across the resistor exceeds 50mV for more than 20us. To (See Datasheet)", 23 VCCLO (power) "The Positive Supply Input. VCCLO must be equal to or lower voltage than VCCHI. An undervoltage lockout circuit disables the chip until the voltage at VCCLO is greater than 2.45V.", 24 AUXVCC (power) "The supply input for the GATELO and GATEHI discharge circuitry. Connect a 1uF capacitor to ground. AUXVCC is powered from VCCLO via an internal Schottky diode and series resistor."